# EAGLE library part CRUMB168_EXT (library chip45)
Crumb168 Rapid Prototyping Module with ATmega168 Microcontroller.
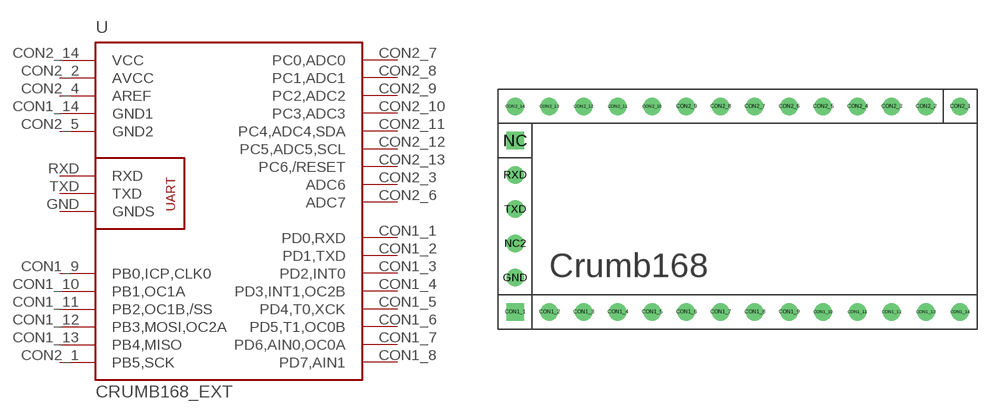
[diagram p4: symbol with the pads of CRUMB168_EXT; footprint CRUMB168_EXT]

Designator prefix -

## CRUMB168_EXT (EEPROM: 512 Byte; FLASH: 16kB; PERIPHERALS: UART, SPI, I2C, standard Atmel ISP 6-pin, RS232 MAX3221; PROCESSOR: ATmega168; RAM: 1kB SRAM)  [CRUMB168_EXT]
CON1_1  PD0,RXD
CON1_2  PD1,TXD
CON1_3  PD2,INT0
CON1_4  PD3,INT1,OC2B
CON1_5  PD4,T0,XCK
CON1_6  PD5,T1,OC0B
CON1_7  PD6,AIN0,OC0A
CON1_8  PD7,AIN1
CON1_9  PB0,ICP,CLK0
CON1_10  PB1,OC1A
CON1_11  PB2,OC1B,/SS
CON1_12  PB3,MOSI,OC2A
CON1_13  PB4,MISO
CON1_14  GND1  pwr
CON2_1  PB5,SCK
CON2_2  AVCC  in
CON2_3  ADC6  in
CON2_4  AREF  in
CON2_5  GND2  pwr
CON2_6  ADC7  in
CON2_7  PC0,ADC0
CON2_8  PC1,ADC1
CON2_9  PC2,ADC2
CON2_10  PC3,ADC3
CON2_11  PC4,ADC4,SDA
CON2_12  PC5,ADC5,SCL
CON2_13  PC6,/RESET
CON2_14  VCC  pwr
GND  GNDS  in
RXD  RXD  in
TXD  TXD  out

## Footprint CRUMB168_EXT (pad centres in mm)
Crumb168 Crumb168 is a low-cost, easy to use and small-formfactor module combining Atmels ATmega168 AVR microcontroller with a standard serial port with RS232 transceiver, reset protection circuit, reset jumper, status LED, standard 6-pin InSystemProgramming (ISP) header and all ATmega168 signals on standard DIL28-like pin headers.
drill 0.8 square: CON1_1 -16.51,-7.62; NC -16.51,5.08
drill 0.8 round: CON1_2 -13.97,-7.62; CON1_3 -11.43,-7.62; CON1_4 -8.89,-7.62; CON1_5 -6.35,-7.62; CON1_6 -3.81,-7.62; CON1_7 -1.27,-7.62; CON1_8 1.27,-7.62; CON1_9 3.81,-7.62; CON1_10 6.35,-7.62; CON1_11 8.89,-7.62; CON1_12 11.43,-7.62; CON1_13 13.97,-7.62; CON1_14 16.51,-7.62; CON2_1 16.51,7.62; CON2_2 13.97,7.62; CON2_3 11.43,7.62; CON2_4 8.89,7.62; CON2_5 6.35,7.62; CON2_6 3.81,7.62; CON2_7 1.27,7.62; CON2_8 -1.27,7.62; CON2_9 -3.81,7.62; CON2_10 -6.35,7.62; CON2_11 -8.89,7.62; CON2_12 -11.43,7.62; CON2_13 -13.97,7.62; CON2_14 -16.51,7.62; GND -16.51,-5.08; NC2 -16.51,-2.54; RXD -16.51,2.54; TXD -16.51,0